# EAGLE library part SMD_78L05 (library wolfi)
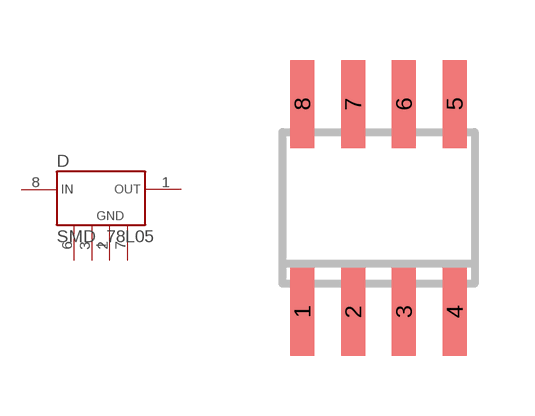
[diagram p8: symbol with the pads of SO8; footprint SO8]

Designator prefix D

## SMD_78L05SO  [SO8]
1  OUT  out
2  GND  pas
3  GND1  pas
6  GND3  pas
7  GND2  pas
8  IN  in

## Footprint SO8 (pad centres in mm)
smd 0.6 x 2.2: 1 -1.905,-2.6; 2 -0.635,-2.6; 3 0.635,-2.6; 4 1.905,-2.6; 5 1.905,2.6; 6 0.635,2.6; 7 -0.635,2.6; 8 -1.905,2.6